# EAGLE library part NUCLEO_F411RE (library Stm32nucleo)
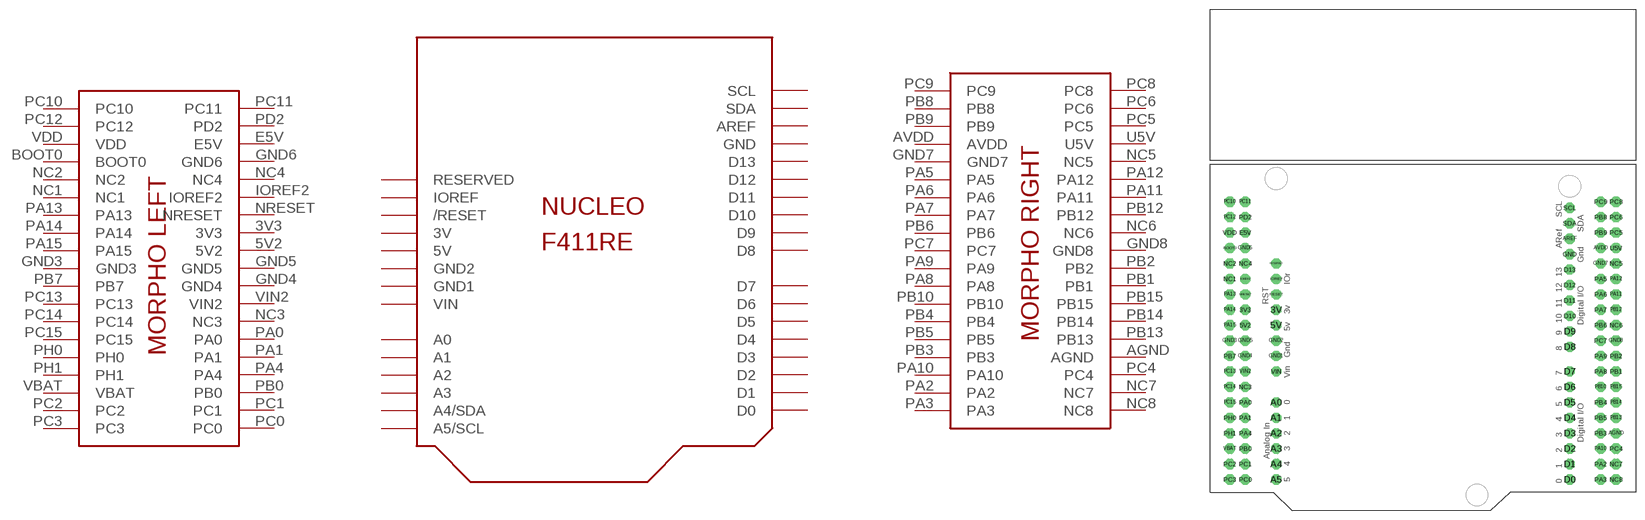
[diagram p0: symbol with the pads of NUCLEO_BRD; footprint NUCLEO_BRD]

Designator prefix -

## NUCLEO_F411RE  [NUCLEO_BRD]
3V  3V  pwr
3V3  3V3  pwr
5V  5V  pwr
5V2  5V2  pwr
A0  A0
A1  A1
A2  A2
A3  A3
A4  A4/SDA
A5  A5/SCL
AGND  AGND  pwr
AREF  AREF
AVDD  AVDD  pwr
BOOT0  BOOT0
D0  D0
D1  D1
D2  D2
D3  D3
D4  D4
D5  D5
D6  D6
D7  D7
D8  D8
D9  D9
D10  D10
D11  D11
D12  D12
D13  D13
E5V  E5V  pwr
GND  GND  pwr
GND1  GND1  pwr
GND2  GND2  pwr
GND3  GND3  pwr
GND4  GND4  pwr
GND5  GND5  pwr
GND6  GND6  pwr
GND7  GND7  pwr
GND8  GND8  pwr
IOREF  IOREF  out
IOREF2  IOREF2  in
NC1  NC1  nc
NC2  NC2  nc
NC3  NC3  nc
NC4  NC4  nc
NC5  NC5  nc
NC6  NC6  nc
NC7  NC7  nc
NC8  NC8  nc
NRESET  NRESET  in
PA0  PA0
PA1  PA1
PA2  PA2
PA3  PA3
PA4  PA4
PA5  PA5
PA6  PA6
PA7  PA7
PA8  PA8
PA9  PA9
PA10  PA10
PA11  PA11
PA12  PA12
PA13  PA13
PA14  PA14
PA15  PA15
PB0  PB0
PB1  PB1
PB2  PB2
PB3  PB3
PB4  PB4
PB5  PB5
PB6  PB6
PB7  PB7
PB8  PB8
PB9  PB9
PB10  PB10
PB12  PB12
PB13  PB13
PB14  PB14
PB15  PB15
PC0  PC0
PC1  PC1
PC2  PC2
PC3  PC3
PC4  PC4
PC5  PC5
PC6  PC6
PC7  PC7
PC8  PC8
PC9  PC9
PC10  PC10
PC11  PC11
PC12  PC12
PC13  PC13
PC14  PC14
PC15  PC15
PD2  PD2
PH0  PH0
PH1  PH1
RESERVED  RESERVED  nc
RESET  /RESET
SCL  SCL
SDA  SDA
U5V  U5V  pwr
VBAT  VBAT  pwr
VDD  VDD  pwr
VIN  VIN  pwr
VIN2  VIN2  pwr

## Footprint NUCLEO_BRD (pad centres in mm)
drill 1 pad 1.676 octagon: 3V 10.87,33.02; 3V3 5.79,33.02; 5V 10.87,30.48; 5V2 5.79,30.48; A0 10.87,17.78; A1 10.87,15.24; A2 10.87,12.7; A3 10.87,10.16; A4 10.87,7.62; A5 10.87,5.08; AGND 66.75,12.7; AREF 59.13,44.704; AVDD 64.21,43.18; BOOT0 3.25,43.18; D0 59.13,5.08; D1 59.13,7.62; D2 59.13,10.16; D3 59.13,12.7; D4 59.13,15.24; D5 59.13,17.78; D6 59.13,20.32; D7 59.13,22.86; D8 59.13,26.924; D9 59.13,29.464; D10 59.13,32.004; D11 59.13,34.544; D12 59.13,37.084; D13 59.13,39.624; E5V 5.79,45.72; GND 59.13,42.164; GND1 10.87,25.4; GND2 10.87,27.94; GND3 3.25,27.94; GND4 5.79,25.4; GND5 5.79,27.94; GND6 5.79,43.18; GND7 64.21,40.64; GND8 66.75,27.94; IOREF 10.87,38.1; IOREF2 5.79,38.1; NC1 3.25,38.1; NC2 3.25,40.64; NC3 5.79,20.32; NC4 5.79,40.64; NC5 66.75,40.64; NC6 66.75,30.48; NC7 66.75,7.62; NC8 66.75,5.08; NRESET 5.79,35.56; PA0 5.79,17.78; PA1 5.79,15.24; PA2 64.21,7.62; PA3 64.21,5.08; PA4 5.79,12.7; PA5 64.21,38.1; PA6 64.21,35.56; PA7 64.21,33.02; PA8 64.21,22.86; PA9 64.21,25.4; PA10 64.21,10.16; PA11 66.75,35.56; PA12 66.75,38.1; PA13 3.25,35.56; PA14 3.25,33.02; PA15 3.25,30.48; PB0 5.79,10.16; PB1 66.75,22.86; PB2 66.75,25.4; PB3 64.21,12.7; PB4 64.21,17.78; PB5 64.21,15.24; PB6 64.21,30.48; PB7 3.25,25.4; PB8 64.21,48.26; PB9 64.21,45.72; PB10 64.21,20.32; PB12 66.75,33.02; PB13 66.75,15.24; PB14 66.75,17.78; PB15 66.75,20.32; PC0 5.79,5.08; PC1 5.79,7.62; PC2 3.25,7.62; PC3 3.25,5.08; PC4 66.75,10.16; PC5 66.75,45.72; PC6 66.75,48.26; PC7 64.21,27.94; PC8 66.75,50.8; PC9 64.21,50.8; PC10 3.25,50.8; PC11 5.79,50.8; PC12 3.25,48.26; PC13 3.25,22.86; PC14 3.25,20.32; PC15 3.25,17.78; PD2 5.79,48.26; PH0 3.25,15.24; PH1 3.25,12.7; RESERVED 10.87,40.64; RESET 10.87,35.56; SCL 59.13,49.784; SDA 59.13,47.244; U5V 66.75,43.18; VBAT 3.25,10.16; VDD 3.25,45.72; VIN 10.87,22.86; VIN2 5.79,22.86